# Altium schematic symbol library TBP02R2W-381-08BE.SchLib: 1 symbol
Pins are listed as number, name and electrical type; pins without a type are passive.

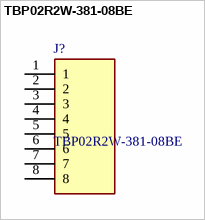
[diagram p0: symbol TBP02R2W-381-08BE]

## TBP02R2W-381-08BE
designator J?
TBP02R2W-381 Series - 2~24 Poles, Pluggable, Receptacle, Vertical, 3.81 Pitch, Terminal Block Connector; Manufacturer_Name: Same Sky; Geometry.Height: 9.2mm; Mouser Part Number: 490-TBP02R2W-38108BE; Mouser Price/Stock: https://www.mouser.co.uk/ProductDetail/Same-Sky/TBP02R2W-381-08BE?qs=PzGy0jfpSMsy8Qrmxc%252Brhg%3D%3D; Manufacturer_Part_Number: TBP02R2W-381-08BE; Datasheet Link: https://www.sameskydevices.com/product/resource/tbp02r2w-381.pdf
footprint TBP02R2W38108BE
pins: 1, 2, 3, 4, 5, 6, 7, 8